# Altium schematic symbol library discrete.SchLib: 24 symbols
Pins are listed as number, name and electrical type; pins without a type are passive.

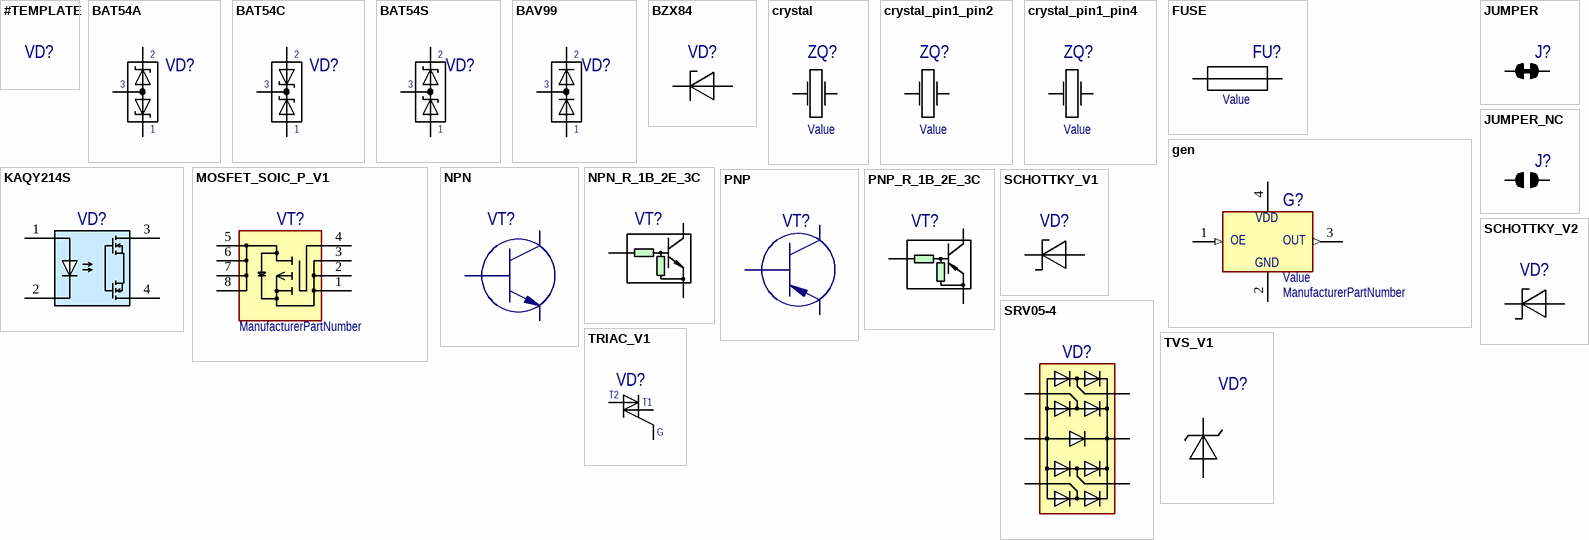
[diagram p0: symbols #TEMPLATE to TVS_V1]

## #TEMPLATE
designator VD?
ManufacturerPartNumber: ManufacturerPartNumber

## BAT54A
designator VD?
ManufacturerPartNumber: ManufacturerPartNumber
pins: 1, 2, 3

## BAT54C
designator VD?
ManufacturerPartNumber: ManufacturerPartNumber
pins: 1, 2, 3

## BAT54S
designator VD?
ManufacturerPartNumber: ManufacturerPartNumber
pins: 1, 2, 3

## BAV99
designator VD?
ManufacturerPartNumber: ManufacturerPartNumber
pins: 1, 2, 3

## BZX84
designator VD?
ManufacturerPartNumber: ManufacturerPartNumber
pins: 1 A, 3 K

## crystal
designator ZQ?, comment Value
Value: Value
pins: 1, 3

## crystal_pin1_pin2
designator ZQ?, comment Value
Value: Value
pins: 1, 2

## crystal_pin1_pin4
designator ZQ?, comment Value
Value: Value
pins: 1, 2 (power) hidden to GND, 3 (power) hidden to GND, 4

## FUSE
designator FU?
ManufacturerPartNumber: ManufacturerPartNumber; Value: Value
pins: 1, 2

## gen
designator G?, comment Value
Value: Value; ManufacturerPartNumber: ManufacturerPartNumber
pins: 1 Standby (in), 2 GND (power), 3 OUTPUT (out), 4 VDD (power)
text: OE; OUT

## JUMPER
designator J?  (net tie, no BOM)
ManufacturerPartNumber: ManufacturerPartNumber
pins: 1, 2

## JUMPER_NC
designator J?  (no BOM)
ManufacturerPartNumber: ManufacturerPartNumber
pins: 1, 2

## KAQY214S
designator VD?
ManufacturerPartNumber: ManufacturerPartNumber
pins: 1, 2, 3, 4

## MOSFET_SOIC_P_V1
designator VT?
ManufacturerPartNumber: ManufacturerPartNumber
pins: 1, 2, 3, 4, 5, 6, 7, 8

## NPN
designator VT?
ManufacturerPartNumber: ManufacturerPartNumber
pins: 1 B, 2 E, 3 C

## NPN_R_1B_2E_3C
designator VT?
ManufacturerPartNumber: ManufacturerPartNumber
pins: 1 B, 2 E, 3 C

## PNP
designator VT?
ManufacturerPartNumber: ManufacturerPartNumber
pins: 1 B, 2 E, 3 C

## PNP_R_1B_2E_3C
designator VT?
ManufacturerPartNumber: ManufacturerPartNumber
pins: 1 B, 2 E, 3 C

## SCHOTTKY_V1
designator VD?
ManufacturerPartNumber: ManufacturerPartNumber
pins: 1 A, 3 K

## SCHOTTKY_V2
designator VD?
ManufacturerPartNumber: ManufacturerPartNumber
pins: A, K

## SRV05-4
designator VD?
ManufacturerPartNumber: ManufacturerPartNumber
pins: 1, 2, 3, 4, 5, 6

## TRIAC_V1
designator VD?
ManufacturerPartNumber: ManufacturerPartNumber
pins: 1 T1, 2 T2, 3 G

## TVS_V1
designator VD?
ManufacturerPartNumber: ManufacturerPartNumber
pins: A, K